# EAGLE library part DRV8844 (library Custom)
RTD to Digital Converter The MAX31865 is a resistance-to-digital converter optimized for platinum resistance temperature detectors (RTDs). An external resistor sets the sensitivity for the RTD being used and a delta-sigma ADC converts the ratio of the RTD resistance to the reference resistance into digital form. The MAX31865’s inputs are protected against overvoltage faults up to +/-50V. Programmable detection of RTD and cable open and short conditions is included.
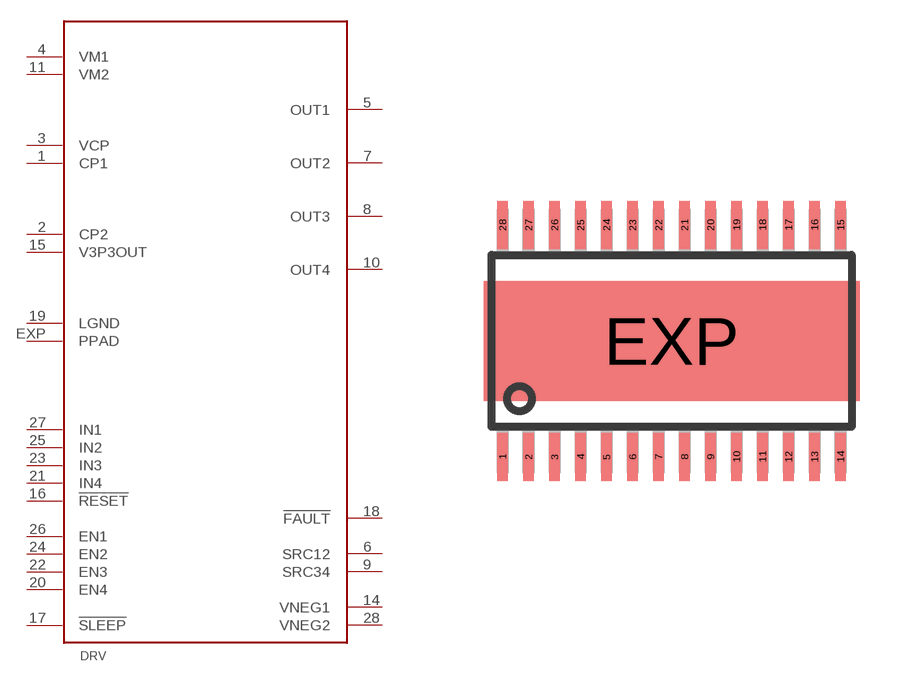
[diagram p1: symbol with the pads of HTSSOP28PWP; footprint HTSSOP28PWP]

Designator prefix DRV

## DRV8844  [HTSSOP28PWP]
1  CP1
2  CP2
3  VCP
4  VM1  pwr
5  OUT1  out
6  SRC12  in
7  OUT2  out
8  OUT3  out
9  SRC34  in
10  OUT4  out
11  VM2  pwr
14  VNEG1  pwr
15  V3P3OUT  out
16  !RESET
17  !SLEEP
18  !FAULT  out
19  LGND  pwr
20  EN4
21  IN4
22  EN3
23  IN3
24  EN2
25  IN2
26  EN1
27  IN1
28  VNEG2  pwr
EXP  PPAD  pwr

## Footprint HTSSOP28PWP (pad centres in mm)
TPS40055PWP (R-PDSO-G**) PowerPAD (TM) 28 pol. PLASTIC SMALL-OUTLINE PACKAGE Source: www.ti.com ... TPS40055 package.pdf & slma002.pdf
smd 0.27 x 1.2: 1 -4.225,-2.9; 2 -3.575,-2.9; 3 -2.925,-2.9; 4 -2.275,-2.9; 5 -1.625,-2.9; 6 -0.975,-2.9; 7 -0.325,-2.9; 8 0.325,-2.9; 9 0.975,-2.9; 10 1.625,-2.9; 11 2.275,-2.9; 12 2.925,-2.9; 13 3.575,-2.9; 14 4.225,-2.9; 15 4.225,2.9; 16 3.575,2.9; 17 2.925,2.9; 18 2.275,2.9; 19 1.625,2.9; 20 0.975,2.9; 21 0.325,2.9; 22 -0.325,2.9; 23 -0.975,2.9; 24 -1.625,2.9; 25 -2.275,2.9; 26 -2.925,2.9; 27 -3.575,2.9; 28 -4.225,2.9
smd 9.4 x 3: EXP 0,0